# Altium footprint library FootprintLib.PCBLIB: 13 footprints
Each footprint in its own frame and in the unit in brackets; x right, y up, seen from the top. Pads: shape width x height; smd on the part's side, far side on the other; paste and mask are expansions set on the pad; w line width, h text height; cw(c..) or ccw(c..) is an arc to the next point about the centre after c.
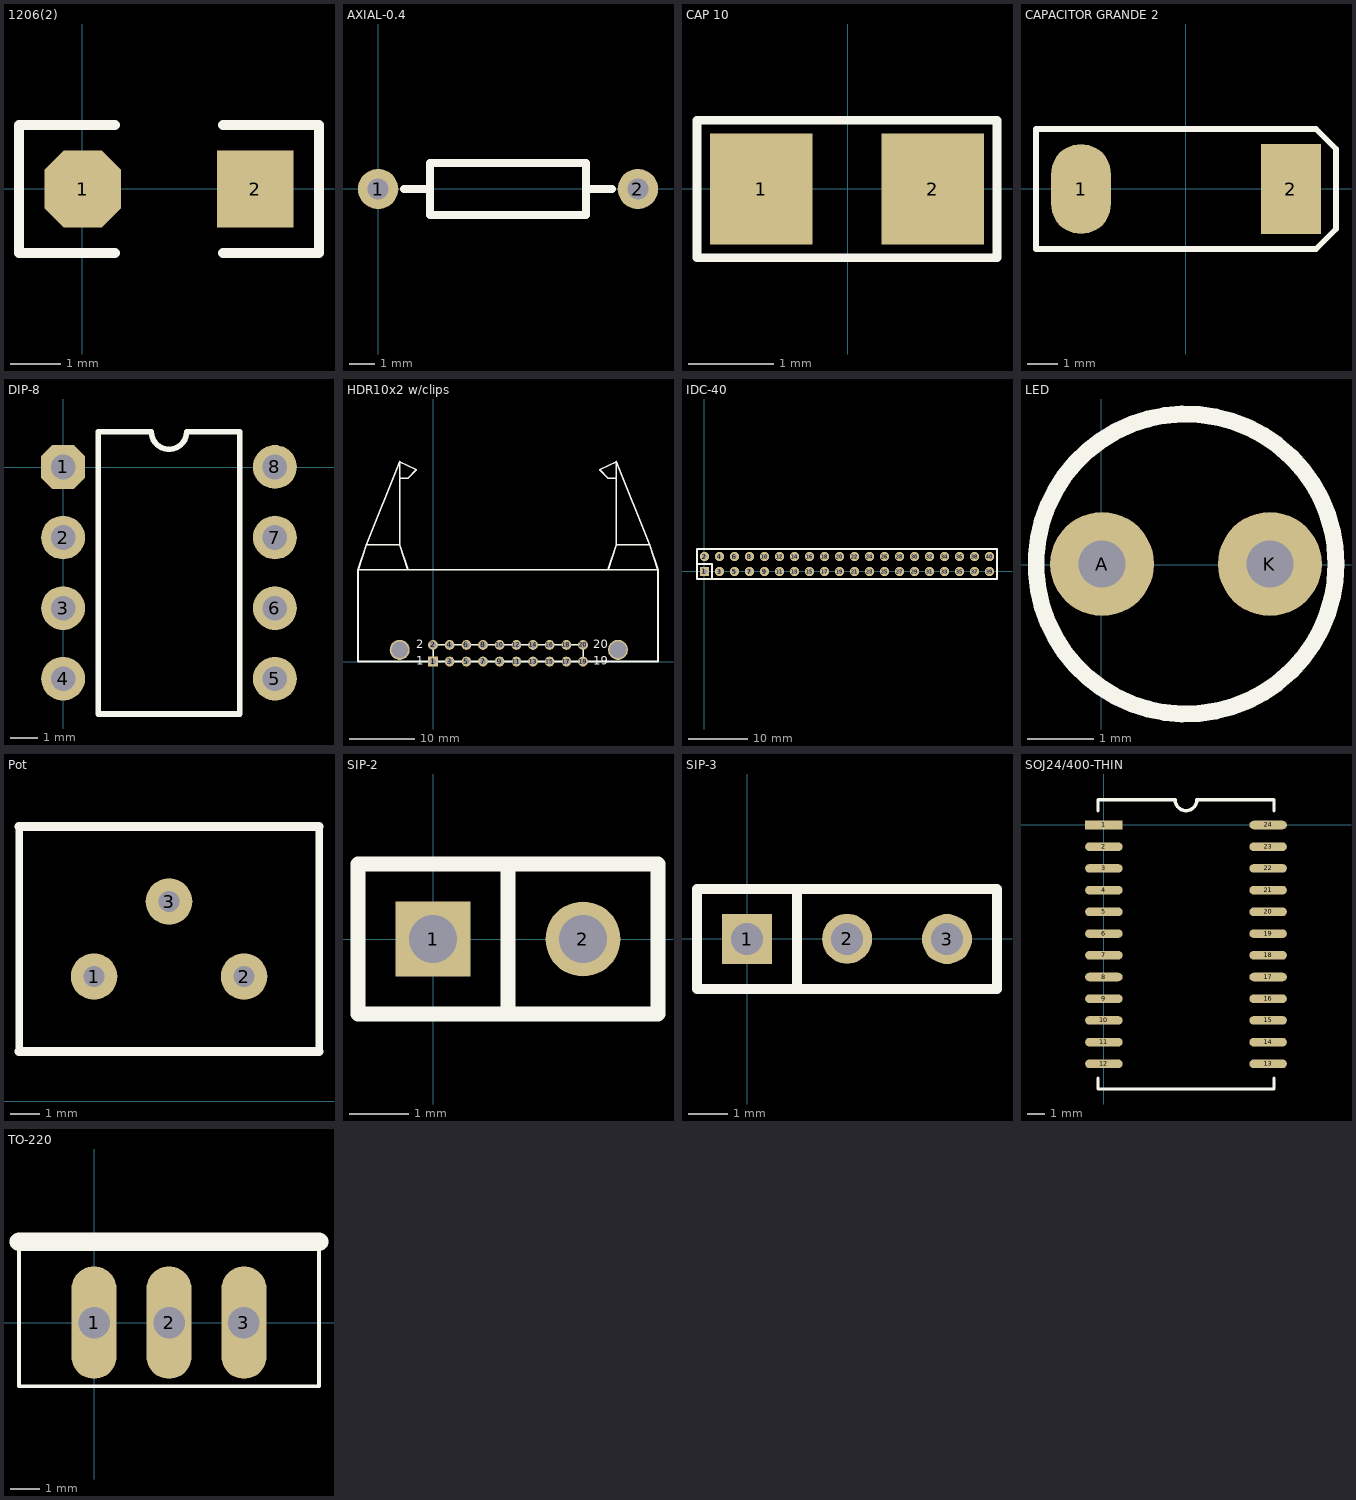
[diagram p0: the footprints below, top view; thin cyan lines are the x and y axes]

## 1206(2) [mil]
pads (2):
  oct 60x60 smd: 1(0.35,-0.34)
  rect 60x60 smd: 2(135.35,-0.34)
Top Overlay:
  lines w7.87: 25.35,-50.34 -49.65,-50.34 -49.65,49.66 25.35,49.66 ; 110.35,-50.34 185.35,-50.34 185.35,49.66 110.35,49.66

## AXIAL-0.4 [mil]
pads (2):
  round 62 hole 32: 1(-0.18,-0.1) 2(399.82,-0.1)
Top Overlay:
  lines w12: 39.82,-0.1 79.82,-0.1 ; 319.82,-0.1 359.82,-0.1 ; 79.82,-40.1 79.82,39.9 319.82,39.9 319.82,-40.1 79.82,-40.1

## CAP 10 [mm]
pads (2):
  rect 1.2x1.3 smd: 1(-1.01,-0.004) 2(0.99,-0.004)
Top Overlay:
  lines w0.1: -1.76,-0.804 1.74,-0.804 1.74,0.796 -1.76,0.796 -1.76,-0.004 -1.76,-0.804

## CAPACITOR GRANDE 2 [mm]
pads (2):
  oval 2x3 smd: 1(-3.499,-0.004)
  rect 2x3 smd: 2(3.501,-0.004)
Top Overlay:
  lines w0.2: -4.999,-2.004 -4.999,-0.004 -4.999,1.996 4.334,1.996 5.001,1.329 5.001,-1.338 4.334,-2.004 -4.999,-2.004

## DIP-8 [mil]
pads (8):
  oct 62x62 hole 35: 1(-0.19,0.13)
  round 62 hole 35: 2(-0.19,-99.87) 3(-0.19,-199.87) 4(-0.19,-299.87) 5(299.81,-299.87) 6(299.81,-199.87) 7(299.81,-99.87) 8(299.81,0.13)
Top Overlay:
  lines w7.87: 49.81,-349.87 249.81,-349.87 249.81,50.13 174.81,50.13 cw(c149.81,50.13) 124.81,50.13 49.81,50.13 49.81,-349.87

## HDR10x2 w/clips [mm]
pads (22):
  rect 1.5x1.5 hole 0.9: 1(0,0)
  round 1.5 hole 0.9: 2(0,2.54) 3(2.54,0) 4(2.54,2.54) 5(5.08,0) 6(5.08,2.54) 7(7.62,0) 8(7.62,2.54) 9(10.16,0) 10(10.16,2.54) 11(12.7,0) 12(12.7,2.54) 13(15.24,0) 14(15.24,2.54) 15(17.78,0) 16(17.78,2.54) 17(20.32,0) 18(20.32,2.54) 19(22.86,0) 20(22.86,2.54)
  round 3.048 hole 2.54: ""(-5.08,1.778) ""(28.194,1.778)
Top Overlay:
  lines w0.2: 0,0 0,2.54 22.86,2.54 22.86,0
  lines w0.254: -5.08,27.94 -3.81,27.94 -2.54,29.21 -5.08,30.48 ; -3.81,13.97 -5.08,17.78 ; 26.67,13.97 27.94,17.78 ; 27.94,27.94 26.67,27.94 25.4,29.21 27.94,30.48 ; -11.43,13.97 -10.16,17.78 ; -11.43,13.97 34.29,13.97 ; -11.43,13.97 -11.43,0 0,0 22.86,0 34.29,0 34.29,13.97 ; -10.16,17.78 -5.08,30.48 ; -10.16,17.78 -5.08,17.78 ; -10.16,17.78 -5.08,17.78 ; -5.08,17.78 -5.08,30.48 ; 27.94,17.78 27.94,30.48 ; 27.94,17.78 33.02,17.78 ; 27.94,30.48 33.02,17.78 ; 33.02,17.78 34.29,13.97
  text "20" at 24.384,2.032 h1.27
  text "19" at 24.384,-0.508 h1.27
  text "1" at -2.54,-0.508 h1.27
  text "2" at -2.54,2.032 h1.27

## IDC-40 [mil]
pads (40):
  rect 62x62 hole 36: 1(0.04,-0.11)
  round 62 hole 28: 2(0.04,99.89) 3(100.04,-0.11) 4(100.04,99.89) 5(200.04,-0.11) 6(200.04,99.89) 7(300.04,-0.11) 8(300.04,99.89) 9(400.04,-0.11) 10(400.04,99.89) 11(500.04,-0.11) 12(500.04,99.89) 13(600.04,-0.11) 14(600.04,99.89) 15(700.04,-0.11) 16(700.04,99.89) 17(800.04,-0.11) 18(800.04,99.89) 19(900.04,-0.11) 20(900.04,99.89) 21(1000.04,-0.11) 22(1000.04,99.89) 23(1100.04,-0.11) 24(1100.04,99.89) 25(1200.04,-0.11) 26(1200.04,99.89) 27(1300.04,-0.11) 28(1300.04,99.89) 29(1400.04,-0.11) 30(1400.04,99.89) 31(1500.04,-0.11) 32(1500.04,99.89) 33(1600.04,-0.11) 34(1600.04,99.89) 35(1700.04,-0.11) 36(1700.04,99.89) 37(1800.04,-0.11) 38(1800.04,99.89) 39(1900.04,-0.11) 40(1900.04,99.89)
Top Overlay:
  lines w12: -49.96,49.89 50.04,49.89 50.04,-50.11 ; -49.96,-50.11 1950.04,-50.11 1950.04,149.89 -49.96,149.89 -49.96,-50.11

## LED [mil]
pads (2):
  round 62 hole 28: A(0.43,0.44) K(100.43,0.44)
Top Overlay:
  circle w10: c50.43,0.44 r89.44

## Pot [mil] "Potentiometer"
pads (3):
  round 62 hole 28: 1(1050.39,166.06) 2(1250.39,166.06) 3(1150.39,266.06)
Top Overlay:
  lines w10: 950.39,66.06 950.39,366.06 ; 1350.39,66.06 1350.39,366.06
  lines w12: 950.39,66.06 1350.39,66.06 ; 950.39,366.06 1250.39,366.06 1350.39,366.06

## SIP-2 [mil]
pads (2):
  rect 50x50 hole 32: 1(-0.02,0.17)
  round 50 hole 32: 2(99.98,0.17)
Top Overlay:
  lines w10: 49.98,-49.83 49.98,50.17 ; -50.02,-49.83 -50.02,50.17 149.98,50.17 149.98,-49.83 -50.02,-49.83

## SIP-3 [mil]
pads (3):
  rect 50x50 hole 32: 1(-0.1,-0.16)
  round 50 hole 32: 2(100,0) 3(199.9,-0.16)
Top Overlay:
  lines w10: 49.9,-50.16 49.9,49.84 ; -50.1,-50.16 -50.1,49.84 249.9,49.84 249.9,-50.16 -50.1,-50.16

## SOJ24/400-THIN [mm]
pads (24):
  rect 2.2x0.5 smd: 1(0.002,-0.012)
  oval 2.2x0.5 smd: 2(0.002,-1.282) 3(0.002,-2.552) 4(0.002,-3.822) 5(0.002,-5.092) 6(0.002,-6.362) 7(0.002,-7.632) 8(0.002,-8.902) 9(0.002,-10.172) 10(0.002,-11.442) 11(0.002,-12.712) 12(0.002,-13.982) 13(9.602,-13.982) 14(9.602,-12.712) 15(9.602,-11.442) 16(9.602,-10.172) 17(9.602,-8.902) 18(9.602,-7.632) 19(9.602,-6.362) 20(9.602,-5.092) 21(9.602,-3.822) 22(9.602,-2.552) 23(9.602,-1.282) 24(9.602,-0.012)
Top Overlay:
  lines w0.2: -0.343,-14.807 -0.343,-15.452 9.947,-15.452 9.947,-14.807 ; -0.343,0.813 -0.343,1.458 4.167,1.458 ccw(c4.802,1.458) 5.437,1.458 9.947,1.458 9.947,0.813

## TO-220 [mil]
pads (3):
  oval 60x150 hole 42: 1(-0.11,0.11) 2(99.89,0.11) 3(199.89,0.11)
Top Overlay:
  lines w5: -100.11,108.11 -100.11,-84.89 299.89,-84.89 299.89,108.11
  lines w25: -100.11,108.11 299.89,108.11